# EAGLE library part LUMENIER (library X15-ESC-Adapter)
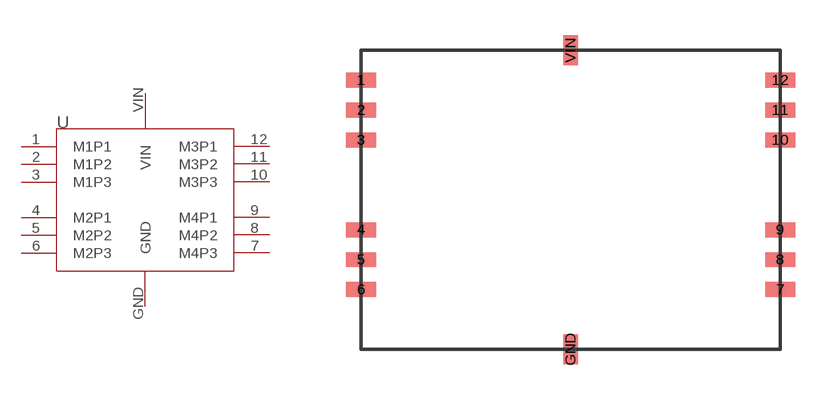
[diagram p0: symbol with the pads of LUMENIER; footprint LUMENIER]

Designator prefix -

## LUMENIER  [LUMENIER]
1  M1P1
2  M1P2
3  M1P3
4  M2P1
5  M2P2
6  M2P3
7  M4P3
8  M4P2
9  M4P1
10  M3P3
11  M3P2
12  M3P1
GND  GND
VIN  VIN

## Footprint LUMENIER (pad centres in mm)
smd 1.27 x 0.635: 1 -8.89,5.08; 2 -8.89,3.81; 3 -8.89,2.54; 4 -8.89,-1.27; 5 -8.89,-2.54; 6 -8.89,-3.81; 7 8.89,-3.81; 8 8.89,-2.54; 9 8.89,-1.27; 10 8.89,2.54; 11 8.89,3.81; 12 8.89,5.08
smd 0.635 x 1.27: GND 0,-6.35; VIN 0,6.35